# Altium footprint library Fuses.PcbLib: 1 footprints
Each footprint in its own frame and in the unit in brackets; x right, y up, seen from the top. Pads: shape width x height; smd on the part's side, far side on the other; paste and mask are expansions set on the pad; w line width, h text height; cw(c..) or ccw(c..) is an arc to the next point about the centre after c.
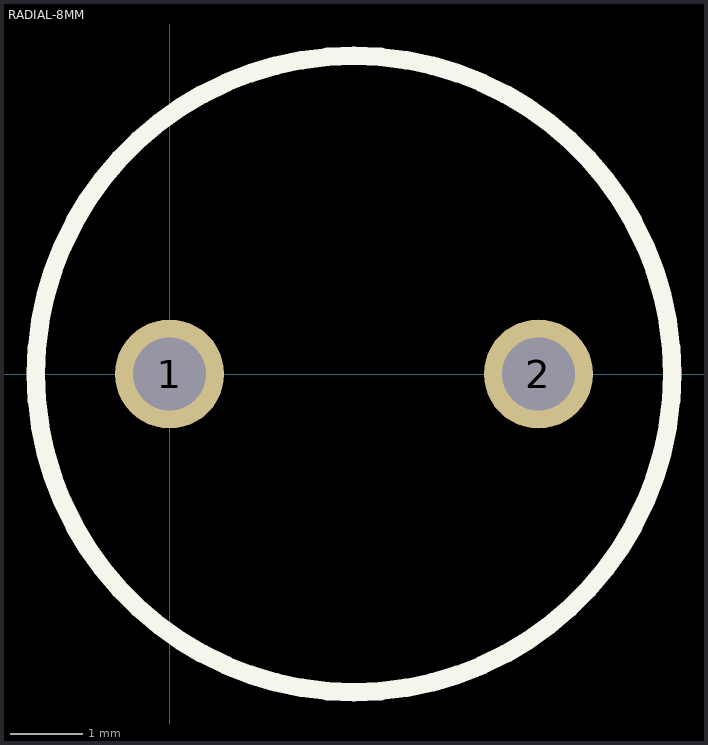
[diagram p0: the footprint, top view; thin cyan lines are the x and y axes]

## RADIAL-8MM [mm]
pads (2):
  round 1.5 hole 1: 1(0,0) 2(5.08,0)
Top Overlay:
  circle w0.254: c2.54,0 r4.381
3D body "Littelfuse 372 TR5.step": height 8.5, standoff -7.6, extent -1.707,-4.112 6.787,4.377